# Altium schematic symbol library SCH - POWER - SWITCHMODE - TI LMR23630QDRRRQ1.Schlib: 1 symbol
Pins are listed as number, name and electrical type; pins without a type are passive.

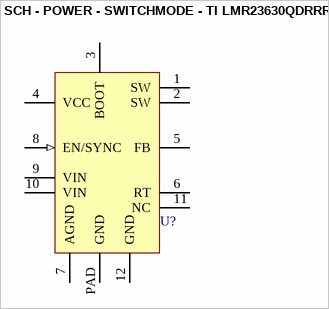
[diagram p0: symbol SCH - POWER - SWITCHMODE - TI LMR23630QDRRRQ1]

## SCH - POWER - SWITCHMODE - TI LMR23630QDRRRQ1
designator U?
footprint DRR0012A
pins: 1 SW, 2 SW, 3 BOOT, 4 VCC (power), 5 FB, 6 RT, 7 AGND (power), 8 EN/SYNC (in), 9 VIN, 10 VIN, 11 NC, 12 GND (power), PAD GND (power)